# Altium footprint library RNCS1206BKE100R.PcbLib: 1 footprints
Each footprint in its own frame and in the unit in brackets; x right, y up, seen from the top. Pads: shape width x height; smd on the part's side, far side on the other; paste and mask are expansions set on the pad; w line width, h text height; cw(c..) or ccw(c..) is an arc to the next point about the centre after c.
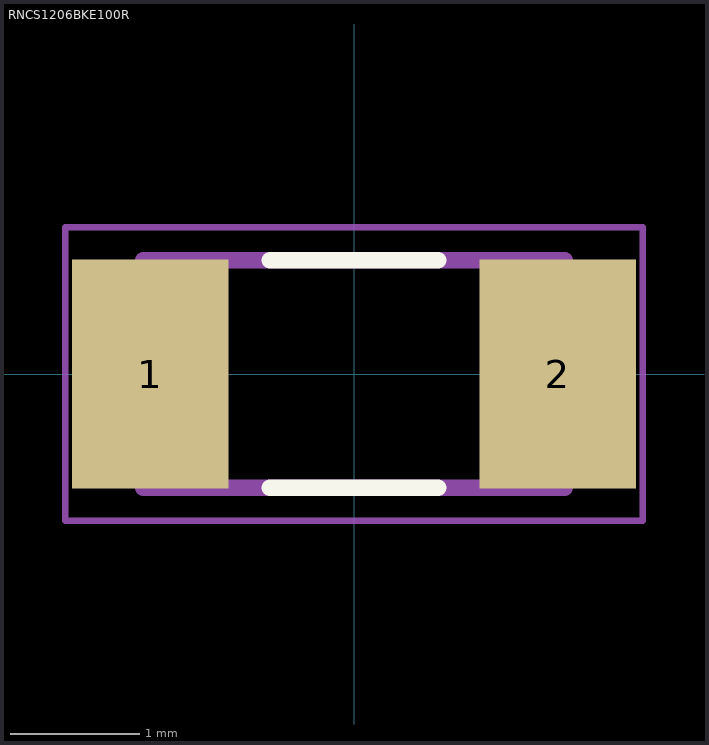
[diagram p0: the footprint, top view; thin cyan lines are the x and y axes]

## RNCS1206BKE100R [mm]
pads (2):
  rect 1.21x1.77 smd: 1(-1.575,0) 2(1.575,0)
Top Overlay:
  lines w0.127: -0.65,-0.88 0.65,-0.88 ; -0.65,0.88 0.65,0.88
Mechanical 13:
  lines w0.127: -1.63,-0.88 -1.63,0.88 1.63,0.88 1.63,-0.88 -1.63,-0.88
Mechanical 15:
  lines w0.05: -2.233,-1.133 -2.233,1.133 2.233,1.133 2.233,-1.133 -2.233,-1.133
3D body "RNCS1206BKE100R.STEP": height 0.65, standoff 0, extent -1.525,-0.775 1.525,0.775